# Altium footprint library WE-CBF.PcbLib: 18 footprints (part 1 of 2)
Each footprint in its own frame and in the unit in brackets; x right, y up, seen from the top. Pads: shape width x height; smd on the part's side, far side on the other; paste and mask are expansions set on the pad; w line width, h text height; cw(c..) or ccw(c..) is an arc to the next point about the centre after c.
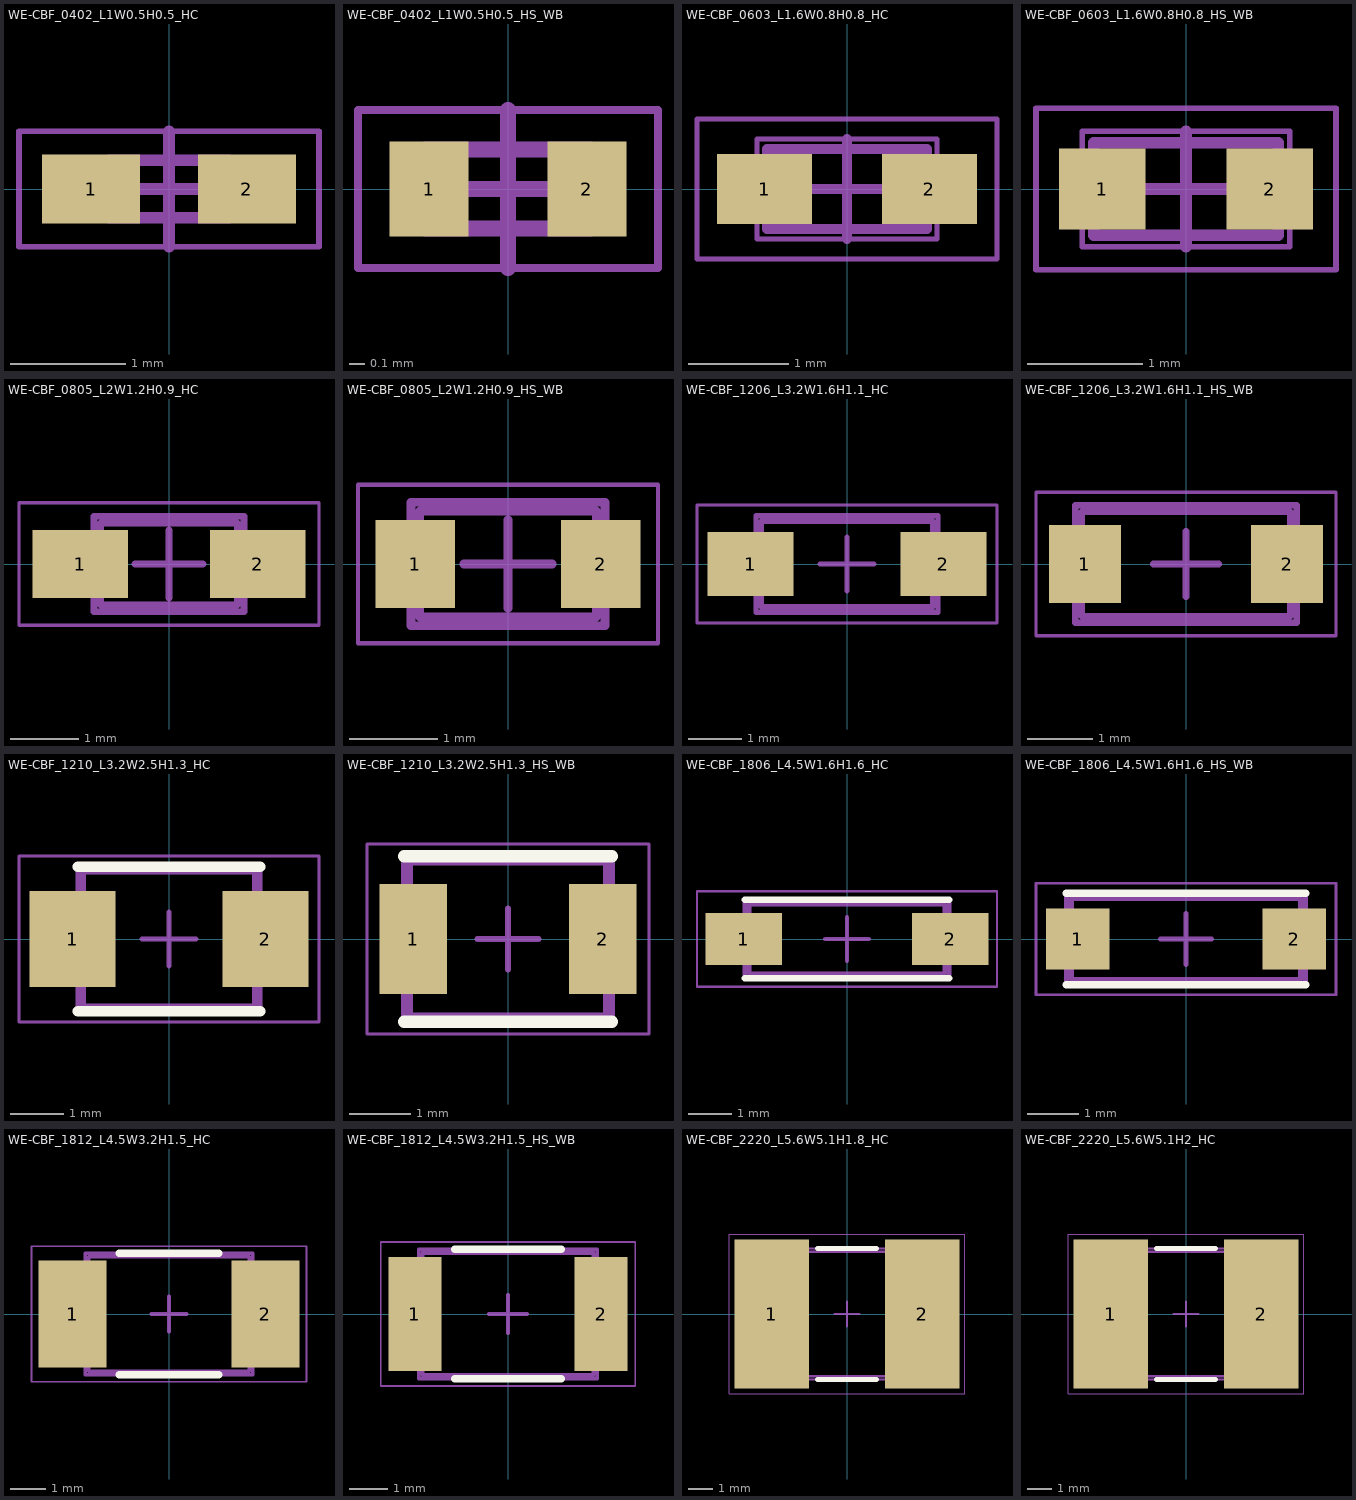
[diagram p0: the footprints below, top view; thin cyan lines are the x and y axes]

## WE-CBF_0402_L1W0.5H0.5_HC [mm] "SMD EMI Suppression Ferrite  Bead, body 1.00x0.50mm"
height 0.55
pads (2):
  rect 0.85x0.6 smd: 1(-0.675,0) 2(0.675,0)
Top Assembly:
  lines w0.05: -0.525,-0.275 -0.525,0.275 0.525,0.275 0.525,-0.275 -0.525,-0.275
Top Designator:
  text ".Designator" at -3.647,-0.357 h1
Top 3D Body:
  lines w0.1: -0.5,-0.25 -0.5,0.25 0.5,0.25 0.5,-0.25 -0.5,-0.25
Top Courtyard:
  lines w0.05: -1.3,-0.5 1.3,-0.5 1.3,0.5 -1.3,0.5 -1.3,-0.5
Top Component Center:
  lines w0.1: -0.5,0 0.5,0 ; 0,-0.5 0,0.5
3D body "WE-CBF_0402_CBF.stp": height 0.5, standoff 0, extent -0.5,-0.25 0.5,0.25

## WE-CBF_0402_L1W0.5H0.5_HS_WB [mm] "SMD EMI Suppression Ferrite  Bead, body 1.00x0.50mm"
height 0.55
pads (2):
  rect 0.5x0.6 smd: 1(-0.5,0) 2(0.5,0)
Top Assembly:
  lines w0.05: -0.525,-0.275 0.525,-0.275 0.525,0.275 -0.525,0.275 -0.525,-0.275
Top Designator:
  text ".Designator" at -3.647,-0.357 h1
Top 3D Body:
  lines w0.1: -0.5,-0.25 0.5,-0.25 0.5,0.25 -0.5,0.25 -0.5,-0.25
Top Courtyard:
  lines w0.05: -0.95,-0.5 0.95,-0.5 0.95,0.5 -0.95,0.5 -0.95,-0.5
Top Component Center:
  lines w0.1: -0.5,0 0.5,0 ; 0,-0.5 0,0.5
3D body "WE-CBF_0402_CBF.stp": height 0.5, standoff 0, extent -0.5,-0.25 0.5,0.25

## WE-CBF_0603_L1.6W0.8H0.8_HC [mm] "SMD EMI Suppression Ferrite  Bead, body 1.60x0.80mm"
height 1
pads (2):
  rect 0.95x0.7 smd: 1(-0.825,0) 2(0.825,0)
Top Assembly:
  lines w0.05: -0.9,-0.5 0.9,-0.5 0.9,0.5 -0.9,0.5 -0.9,-0.5
Top Designator:
  text ".Designator" at -3.647,-0.357 h1
Top 3D Body:
  lines w0.1: -0.8,-0.4 -0.8,0.4 0.8,0.4 0.8,-0.4 -0.8,-0.4
Top Courtyard:
  lines w0.05: -1.5,-0.7 -1.5,0.7 1.5,0.7 1.5,-0.7 -1.5,-0.7
Top Component Center:
  lines w0.1: -0.5,0 0.5,0 ; 0,-0.5 0,0.5
3D body "WE-CBF_0603_CBF.stp": height 0.8, standoff 0, extent -0.8,-0.4 0.8,0.4

## WE-CBF_0603_L1.6W0.8H0.8_HS_WB [mm] "SMD EMI Suppression Ferrite  Bead, body 1.60x0.80mm"
height 1
pads (2):
  rect 0.75x0.7 smd: 1(-0.725,0) 2(0.725,0)
Top Assembly:
  lines w0.05: -0.9,-0.5 -0.9,0.5 0.9,0.5 0.9,-0.5 -0.9,-0.5
Top Designator:
  text ".Designator" at -3.647,-0.357 h1
Top 3D Body:
  lines w0.1: -0.8,-0.4 0.8,-0.4 0.8,0.4 -0.8,0.4 -0.8,-0.4
Top Courtyard:
  lines w0.05: -1.3,-0.7 1.3,-0.7 1.3,0.7 -1.3,0.7 -1.3,-0.7
Top Component Center:
  lines w0.1: -0.5,0 0.5,0 ; 0,-0.5 0,0.5
3D body "WE-CBF_0603_CBF.stp": height 0.8, standoff 0, extent -0.8,-0.4 0.8,0.4

## WE-CBF_0805_L2W1.2H0.9_HC [mm] "SMD EMI Suppression Ferrite  Bead, body 2.00x1.20mm"
height 1.1
pads (2):
  rect 1.4x1 smd: 1(-1.3,0) 2(1.3,0)
Top Assembly:
  lines w0.1: -1.1,-0.7 -1.1,0.7 1.1,0.7 1.1,-0.7 -1.1,-0.7
Top Designator:
  text ".Designator" at -3.647,-0.357 h1
Top 3D Body:
  lines w0.1: -1,-0.6 -1,0.6 1,0.6 1,-0.6 -1,-0.6
Top Courtyard:
  lines w0.05: -2.2,-0.9 -2.2,0.9 2.2,0.9 2.2,-0.9 -2.2,-0.9
Top Component Center:
  lines w0.1: -0.5,0 0.5,0 ; 0,-0.5 0,0.5
3D body "WE-CBF_0805_CBF.stp": height 0.9, standoff 0, extent -1,-0.6 1,0.6

## WE-CBF_0805_L2W1.2H0.9_HS_WB [mm] "SMD EMI Suppression Ferrite  Bead, body 2.00x1.20mm"
height 1.1
pads (2):
  rect 0.9x1 smd: 1(-1.05,0) 2(1.05,0)
Top Assembly:
  lines w0.1: -1.1,-0.7 -1.1,0.7 1.1,0.7 1.1,-0.7 -1.1,-0.7
Top Designator:
  text ".Designator" at -3.647,-0.357 h1
Top 3D Body:
  lines w0.1: -1,-0.6 -1,0.6 1,0.6 1,-0.6 -1,-0.6
Top Courtyard:
  lines w0.05: -1.7,-0.9 1.7,-0.9 1.7,0.9 -1.7,0.9 -1.7,-0.9
Top Component Center:
  lines w0.1: -0.5,0 0.5,0 ; 0,-0.5 0,0.5
3D body "WE-CBF_0805_CBF.stp": height 0.9, standoff 0, extent -1,-0.6 1,0.6

## WE-CBF_1206_L3.2W1.6H1.1_HC [mm] "SMD EMI Suppression Ferrite  Bead, body 3.20x1.60mm"
height 1.3
pads (2):
  rect 1.6x1.2 smd: 1(-1.8,0) 2(1.8,0)
Top Assembly:
  lines w0.1: -1.7,-0.9 -1.7,0.9 1.7,0.9 1.7,-0.9 -1.7,-0.9
Top Designator:
  text ".Designator" at -3.647,-0.357 h1
Top 3D Body:
  lines w0.1: -1.6,-0.8 -1.6,0.8 1.6,0.8 1.6,-0.8 -1.6,-0.8
Top Courtyard:
  lines w0.05: -2.8,-1.1 2.8,-1.1 2.8,1.1 -2.8,1.1 -2.8,-1.1
Top Component Center:
  lines w0.1: -0.5,0 0.5,0 ; 0,-0.5 0,0.5
3D body "WE-CBF_1206_CBF.stp": height 1.1, standoff 0, extent -1.6,-0.8 1.6,0.8

## WE-CBF_1206_L3.2W1.6H1.1_HS_WB [mm] "SMD EMI Suppression Ferrite  Bead, body 3.20x1.60mm"
height 1.3
pads (2):
  rect 1.1x1.2 smd: 1(-1.55,0) 2(1.55,0)
Top Assembly:
  lines w0.1: -1.7,-0.9 -1.7,0.9 1.7,0.9 1.7,-0.9 -1.7,-0.9
Top Designator:
  text ".Designator" at -3.647,-0.357 h1
Top 3D Body:
  lines w0.1: -1.6,-0.8 -1.6,0.8 1.6,0.8 1.6,-0.8 -1.6,-0.8
Top Courtyard:
  lines w0.05: -2.3,-1.1 2.3,-1.1 2.3,1.1 -2.3,1.1 -2.3,-1.1
Top Component Center:
  lines w0.1: -0.5,0 0.5,0 ; 0,-0.5 0,0.5
3D body "WE-CBF_1206_CBF.stp": height 1.1, standoff 0, extent -1.6,-0.8 1.6,0.8

## WE-CBF_1210_L3.2W2.5H1.3_HC [mm] "SMD EMI Suppression Ferrite  Bead, body 3.20x2.50mm"
height 1.5
pads (2):
  rect 1.6x1.8 smd: 1(-1.8,0) 2(1.8,0)
Top Overlay:
  lines w0.2: -1.7,-1.35 1.7,-1.35 ; -1.7,1.35 1.7,1.35
Top Assembly:
  lines w0.1: -1.7,-1.35 1.7,-1.35 1.7,1.35 -1.7,1.35 -1.7,-1.35
Top Designator:
  text ".Designator" at -3.647,-0.357 h1
Top 3D Body:
  lines w0.1: -1.6,-1.25 -1.6,1.25 1.6,1.25 1.6,-1.25 -1.6,-1.25
Top Courtyard:
  lines w0.05: -2.8,-1.55 2.8,-1.55 2.8,1.55 -2.8,1.55 -2.8,-1.55
Top Component Center:
  lines w0.1: -0.5,0 0.5,0 ; 0,-0.5 0,0.5
3D body "WE-CBF_1210_CBF.stp": height 1.3, standoff 0, extent -1.6,-1.25 1.6,1.25

## WE-CBF_1210_L3.2W2.5H1.3_HS_WB [mm] "SMD EMI Suppression Ferrite  Bead, body 3.20x2.50mm"
height 1.5
pads (2):
  rect 1.1x1.8 smd: 1(-1.55,0) 2(1.55,0)
Top Overlay:
  lines w0.2: -1.7,-1.35 1.7,-1.35 ; -1.7,1.35 1.7,1.35
Top Assembly:
  lines w0.1: -1.7,-1.35 -1.7,1.35 1.7,1.35 1.7,-1.35 -1.7,-1.35
Top Designator:
  text ".Designator" at -3.647,-0.357 h1
Top 3D Body:
  lines w0.1: -1.6,-1.25 1.6,-1.25 1.6,1.25 -1.6,1.25 -1.6,-1.25
Top Courtyard:
  lines w0.05: -2.3,-1.55 -2.3,1.55 2.3,1.55 2.3,-1.55 -2.3,-1.55
Top Component Center:
  lines w0.1: -0.5,0 0.5,0 ; 0,-0.5 0,0.5
3D body "WE-CBF_1210_CBF.stp": height 1.3, standoff 0, extent -1.6,-1.25 1.6,1.25

## WE-CBF_1806_L4.5W1.6H1.6_HC [mm] "SMD EMI Suppression Ferrite  Bead, body 4.50x1.60mm"
height 1.8
pads (2):
  rect 1.75x1.2 smd: 1(-2.375,0) 2(2.375,0)
Top Overlay:
  lines w0.15: -2.35,-0.9 2.35,-0.9 ; -2.35,0.9 2.35,0.9
Top Assembly:
  lines w0.1: -2.35,-0.9 2.35,-0.9 2.35,0.9 -2.35,0.9 -2.35,-0.9
Top Designator:
  text ".Designator" at -3.647,-0.357 h1
Top 3D Body:
  lines w0.1: -2.25,-0.8 2.25,-0.8 2.25,0.8 -2.25,0.8 -2.25,-0.8
Top Courtyard:
  lines w0.05: -3.45,-1.1 -3.45,1.1 3.45,1.1 3.45,-1.1 -3.45,-1.1
Top Component Center:
  lines w0.1: -0.5,0 0.5,0 ; 0,-0.5 0,0.5
3D body "WE-CBF_1806_CBF.stp": height 1.6, standoff 0, extent -2.25,-0.8 2.25,0.8

## WE-CBF_1806_L4.5W1.6H1.6_HS_WB [mm] "SMD EMI Suppression Ferrite  Bead, body 4.50x1.60mm"
height 1.8
pads (2):
  rect 1.25x1.2 smd: 1(-2.125,0) 2(2.125,0)
Top Overlay:
  lines w0.15: -2.35,-0.9 2.35,-0.9 ; -2.35,0.9 2.35,0.9
Top Assembly:
  lines w0.1: -2.35,-0.9 -2.35,0.9 2.35,0.9 2.35,-0.9 -2.35,-0.9
Top Designator:
  text ".Designator" at -3.647,-0.357 h1
Top 3D Body:
  lines w0.1: -2.25,-0.8 -2.25,0.8 2.25,0.8 2.25,-0.8 -2.25,-0.8
Top Courtyard:
  lines w0.05: -2.95,-1.1 2.95,-1.1 2.95,1.1 -2.95,1.1 -2.95,-1.1
Top Component Center:
  lines w0.1: -0.5,0 0.5,0 ; 0,-0.5 0,0.5
3D body "WE-CBF_1806_CBF.stp": height 1.6, standoff 0, extent -2.25,-0.8 2.25,0.8

## WE-CBF_1812_L4.5W3.2H1.5_HC [mm] "SMD EMI Suppression Ferrite  Bead, body 4.50x3.20mm"
height 1.7
pads (2):
  rect 1.9x3 smd: 1(-2.7,0) 2(2.7,0)
Top Overlay:
  lines w0.2: -1.4,-1.7 1.4,-1.7 ; -1.4,1.7 1.4,1.7
Top Assembly:
  lines w0.1: -2.35,-1.7 2.35,-1.7 2.35,1.7 -2.35,1.7 -2.35,-1.7
Top Designator:
  text ".Designator" at -3.647,-0.357 h1
Top 3D Body:
  lines w0.1: -2.25,-1.6 -2.25,1.6 2.25,1.6 2.25,-1.6 -2.25,-1.6
Top Courtyard:
  lines w0.05: -3.85,-1.9 3.85,-1.9 3.85,1.9 -3.85,1.9 -3.85,-1.9
Top Component Center:
  lines w0.1: -0.5,0 0.5,0 ; 0,-0.5 0,0.5
3D body "WE-CBF_1812_CBF.stp": height 1.5, standoff 0, extent -2.25,-1.6 2.25,1.6

## WE-CBF_1812_L4.5W3.2H1.5_HS_WB [mm] "SMD EMI Suppression Ferrite  Bead, body 4.50x3.20mm"
height 1.7
pads (2):
  rect 1.4x3 smd: 1(-2.45,0) 2(2.45,0)
Top Overlay:
  lines w0.2: -1.4,-1.7 1.4,-1.7 ; -1.4,1.7 1.4,1.7
Top Assembly:
  lines w0.1: -2.35,-1.7 2.35,-1.7 2.35,1.7 -2.35,1.7 -2.35,-1.7
Top Designator:
  text ".Designator" at -3.647,-0.357 h1
Top 3D Body:
  lines w0.1: -2.25,-1.6 -2.25,1.6 2.25,1.6 2.25,-1.6 -2.25,-1.6
Top Courtyard:
  lines w0.05: -3.35,-1.9 -3.35,1.9 3.35,1.9 3.35,-1.9 -3.35,-1.9
Top Component Center:
  lines w0.1: -0.5,0 0.5,0 ; 0,-0.5 0,0.5
3D body "WE-CBF_1812_CBF.stp": height 1.5, standoff 0, extent -2.25,-1.6 2.25,1.6

## WE-CBF_2220_L5.6W5.1H1.8_HC [mm] "SMD EMI Suppression Ferrite  Bead, body 5.60x5.10mm"
height 1.8
pads (2):
  rect 3.05x6.1 smd: 1(-3.075,0) 2(3.075,0)
Top Overlay:
  lines w0.2: -1.2,-2.675 1.2,-2.675 ; -1.2,2.675 1.2,2.675
Top Assembly:
  lines w0.1: -3.055,-2.675 3.055,-2.675 3.055,2.675 -3.055,2.675 -3.055,-2.675
Top Designator:
  text ".Designator" at -3.647,-0.357 h1
Top 3D Body:
  lines w0.1: -2.8,-2.55 2.8,-2.55 2.8,2.55 -2.8,2.55 -2.8,-2.55
Top Courtyard:
  lines w0.05: -4.8,-3.25 4.8,-3.25 4.8,3.25 -4.8,3.25 -4.8,-3.25
Top Component Center:
  lines w0.1: -0.5,0 0.5,0 ; 0,-0.5 0,0.5
3D body "7427928xxx_2220.stp": height 1.8, standoff 0, extent -2.795,-2.54 2.795,2.54

## WE-CBF_2220_L5.6W5.1H2_HC [mm] "SMD EMI Suppression Ferrite  Bead, body 5.60x5.10mm"
height 2
pads (2):
  rect 3.05x6.1 smd: 1(-3.075,0) 2(3.075,0)
Top Overlay:
  lines w0.2: -1.2,-2.675 1.2,-2.675 ; -1.2,2.675 1.2,2.675
Top Assembly:
  lines w0.1: -3.055,-2.675 3.055,-2.675 3.055,2.675 -3.055,2.675 -3.055,-2.675
Top Designator:
  text ".Designator" at -3.647,-0.357 h1
Top 3D Body:
  lines w0.1: -2.8,-2.55 -2.8,2.55 2.8,2.55 2.8,-2.55 -2.8,-2.55
Top Courtyard:
  lines w0.05: -4.8,-3.25 4.8,-3.25 4.8,3.25 -4.8,3.25 -4.8,-3.25
Top Component Center:
  lines w0.1: -0.5,0 0.5,0 ; 0,-0.5 0,0.5
3D body "7427928551.stp": height 2, standoff 0, extent -2.795,-2.54 2.795,2.54